# Altium schematic symbol library DRV8353FSRTAR.SchLib: 1 symbol
Pins are listed as number, name and electrical type; pins without a type are passive.

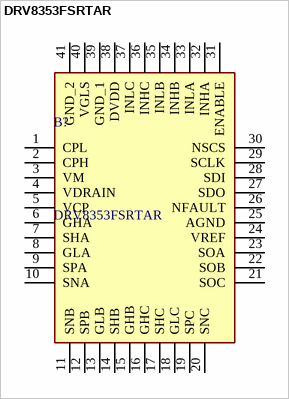
[diagram p0: symbol DRV8353FSRTAR]

## DRV8353FSRTAR
designator B?
Gate Drivers 102-V max 3-phase Functional Safety Quality-Managed smart gate driver with 3x CSA 40-WQFN -40 to 125; Manufacturer_Name: Texas Instruments; Geometry.Height: 0.8mm; Mouser Part Number: 595-DRV8353FSRTAR; Mouser Price/Stock: https://www.mouser.co.uk/ProductDetail/Texas-Instruments/DRV8353FSRTAR?qs=hd1VzrDQEGj9xu7LrY%252BpOw%3D%3D; Manufacturer_Part_Number: DRV8353FSRTAR; Datasheet Link: https://www.ti.com/lit/gpn/drv8353f
footprint QFN50P600X600X80-41N-D
pins: 1 CPL, 2 CPH, 3 VM, 4 VDRAIN, 5 VCP, 6 GHA, 7 SHA, 8 GLA, 9 SPA, 10 SNA, 11 SNB, 12 SPB, 13 GLB, 14 SHB, 15 GHB, 16 GHC, 17 SHC, 18 GLC, 19 SPC, 20 SNC, 21 SOC, 22 SOB, 23 SOA, 24 VREF, 25 AGND, 26 NFAULT, 27 SDO, 28 SDI, 29 SCLK, 30 NSCS, 31 ENABLE, 32 INHA, 33 INLA, 34 INHB, 35 INLB, 36 INHC, 37 INLC, 38 DVDD, 39 GND_1, 40 VGLS, 41 GND_2